# Altium integrated library SR5-3V-200-1C.IntLib: 1 symbol
Pins are listed as number, name and electrical type; pins without a type are passive.

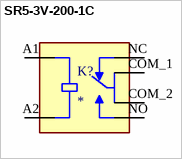
[diagram p0: symbol SR5-3V-200-1C]

## SR5-3V-200-1C
designator K?
15.6 x 10.6 x 11.8 mm, 3 V, 1 A, SPDT (1 Form C), Signal Relay; MF: CUI Devices; MP: SR5-3V-200-1C; SnapEDA_Link: https://www.snapeda.com/parts/SR5-3V-200-1C/CUI+Devices/view-part/?ref=snap; Package: None; Value: *; CUI_purchase_URL: https://www.cuidevices.com/product/relays/signal-relays/sr5-3v-200-1c?utm_source=snapeda.com&utm_medium=referral&utm_campaign=snapedaBOM; Check_prices: https://www.snapeda.com/parts/SR5-3V-200-1C/CUI+Devices/view-part/?ref=eda
footprint RELAY_SR5-3V-200-1C
pins: A1 COIL1, A2 COIL2, COM_1 COM1, COM_2 COM2, NC, NO